# Altium footprint library Panasonic_D8_CanCap.PcbLib: 1 footprints
Each footprint in its own frame and in the unit in brackets; x right, y up, seen from the top. Pads: shape width x height; smd on the part's side, far side on the other; paste and mask are expansions set on the pad; w line width, h text height; cw(c..) or ccw(c..) is an arc to the next point about the centre after c.
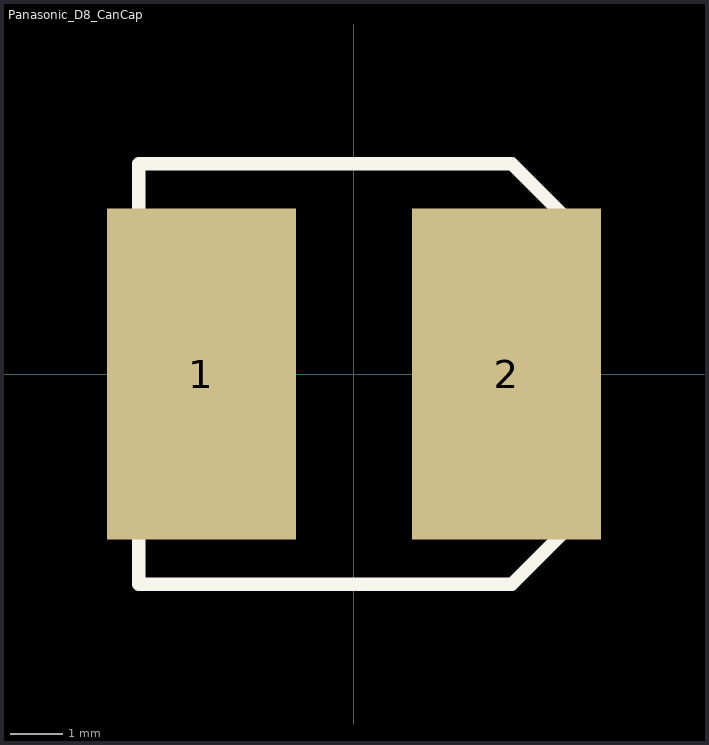
[diagram p0: the footprint, top view; thin cyan lines are the x and y axes]

## Panasonic_D8_CanCap [mm]
pads (2):
  rect 3.6x6.3 smd: 1(-2.9,0) 2(2.9,0)
Top Overlay:
  lines w0.254: -4.09,-4 3,-4 4,-3 4,3 3,4 -4.09,4 -4.09,0 -4.09,-4